# EAGLE library part 34830-2001 (library connectors)
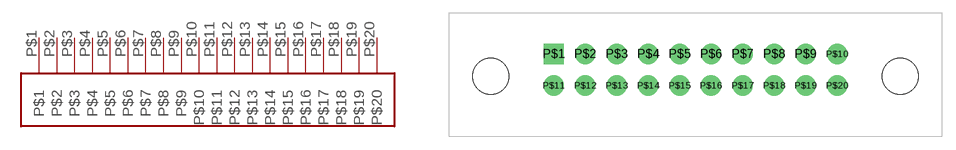
[diagram p1: symbol with the pads of 34830-2001; footprint 34830-2001]

Designator prefix -

## 34830-2001  [34830-2001]
P$1  P$1
P$2  P$2
P$3  P$3
P$4  P$4
P$5  P$5
P$6  P$6
P$7  P$7
P$8  P$8
P$9  P$9
P$10  P$10
P$11  P$11
P$12  P$12
P$13  P$13
P$14  P$14
P$15  P$15
P$16  P$16
P$17  P$17
P$18  P$18
P$19  P$19
P$20  P$20

## Footprint 34830-2001 (pad centres in mm)
drill 1.5 square: P$1 -15.75,1.75
drill 1.5: P$2 -12.25,1.75; P$3 -8.75,1.75; P$4 -5.25,1.75; P$5 -1.75,1.75; P$6 1.75,1.75; P$7 5.25,1.75; P$8 8.75,1.75; P$9 12.25,1.75; P$10 15.75,1.75; P$11 -15.75,-1.75; P$12 -12.25,-1.75; P$13 -8.75,-1.75; P$14 -5.25,-1.75; P$15 -1.75,-1.75; P$16 1.72,-1.75; P$17 5.25,-1.75; P$18 8.75,-1.75; P$19 12.25,-1.75; P$20 15.75,-1.75
hole 4 at -22.75,-0.71
hole 4 at 22.75,-0.71